# Altium schematic symbol library Testpoint.SchLib: 1 symbol
Pins are listed as number, name and electrical type; pins without a type are passive.

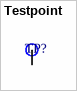
[diagram p0: symbol Testpoint]

## Testpoint
designator TP?, comment TP  (value not drawn)  (no BOM)
Testpoint; Value: TP
footprint TP_0.8
footprint TP_1.2
pins: 1